# Altium schematic symbol library Transistor.SchLib: 21 symbols
Pins are listed as number, name and electrical type; pins without a type are passive.

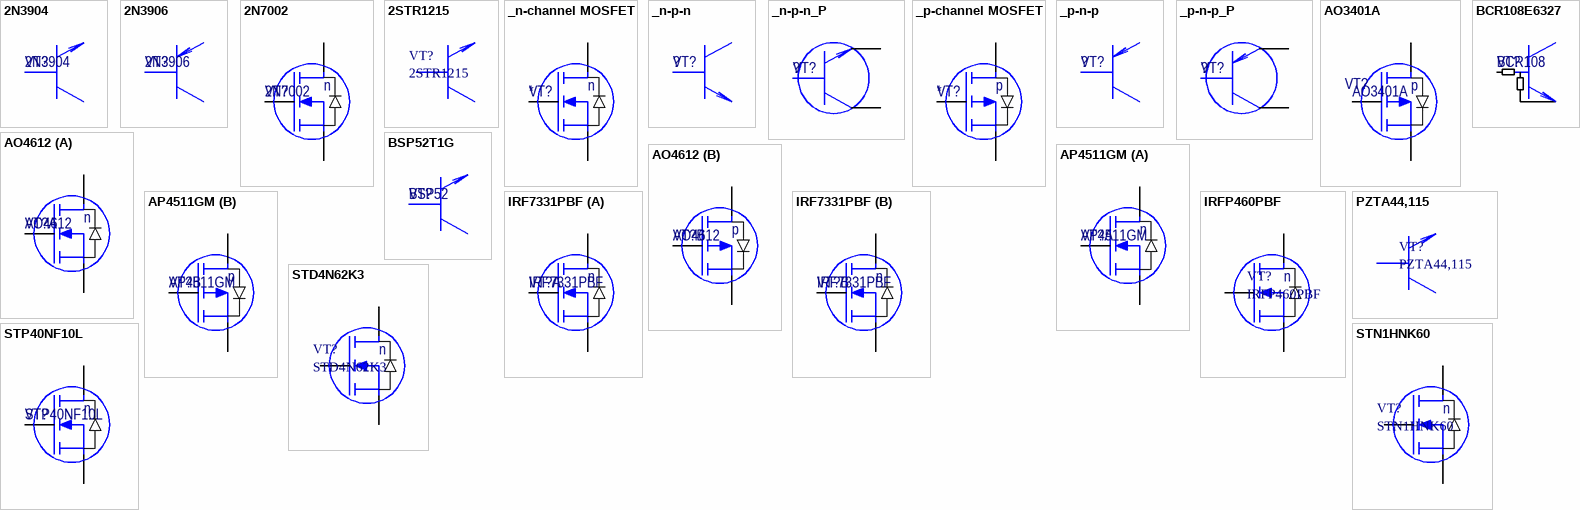
[diagram p0: symbols 2N3904 to STP40NF10L]

## 2N3904
designator VT?
n-p-n биполярный; Manufacturer: Fairchild; ManufacturerPartNumber: 2N3904; Package: TO-92; Supplier: Промэлектроника
footprint TO-92
pins: 1 E "Emitter", 2 B "Вase", 3 C "Сollector"

## 2N3906
designator VT?
p-n-p биполярный; Manufacturer: Fairchild; Price: 2; ManufacturerPartNumber: 2N3906; Package: TO-92; Supplier: Промэлектроника
footprint TO-92
pins: 1 E "Emitter", 2 B "Вase", 3 C "collector"

## 2N7002
designator VT?
N-канал 60В, 300мA; Manufacturer: NXP; ManufacturerPartNumber: 2N7002; ComponentLink1URL: https://www.nxp.com/documents/data_sheet/2N7002.pdf; ComponentLink1Description: Datasheet; Price: 6; Supplier: Промэлектроника
footprint SOT23 (TO-236AB) (SOT23, 3-Leads, Body 2,90x2,45mm, Pitch 0,95mm, IPC Low Density)
pins: 1 G, 2 S, 3 D
text: n

## 2STR1215
designator VT?
TRANS NPN 15V 1.5A SOT-23; Manufacturer: STMicroelectronics; Max Power Dissipation: 500mW; Number of Elements: 1; Emitter Base Voltage (VEBO): 5V; Collector Emitter Saturation Voltage: 850mV; Element Configuration: Single; Supplier 1: Digi-Key; Manufacturer Part Number: 2STR1215; Stock 1: 8419; Pricing 1: 1=0.46, 10=0.35, 100=0.2178, 500=0.149, 1000=0.1146 (USD); Mount: Surface Mount; Case/Package: SOT-23; Number of Pins: 3; Contact Plating: Tin,Matte; Min Operating Temperature: -65°C; Max Operating Temperature: 150°C; Collector Emitter Voltage (VCEO): 15V; Max Collector Current: 1.5A; Packaging: Tape and Reel; Package Quantity: 1; Polarity: NPN; Collector Base Voltage (VCBO): 15V; Collector Emitter Breakdown Voltage: 15V; Max Breakdown Voltage: 15V; Power Dissipation: 500mW; Length: 2.9mm; Height: 0.95mm; Width: 1.3mm; Radiation Hardening: No; REACH SVHC: No SVHC; Lead Free: Lead Free; ComponentLink1URL: https://datasheet.ciiva.com/15139/getdatasheetpartid-145505-15139514.pdf; ComponentLink1Description: https://datasheet.ciiva.com/15139/getdatasheetpartid-145505-15139514.pdf; ComponentLink2URL: https://datasheet.ciiva.com/1195/1689694-1195104.pdf; ComponentLink2Description: https://datasheet.ciiva.com/1195/1689694-1195104.pdf; ComponentLink3URL: https://datasheet.ciiva.com/16614/cd00090812-16614457.pdf; ComponentLink3Description: https://datasheet.ciiva.com/16614/cd00090812-16614457.pdf; ComponentLink4URL: https://datasheet.ciiva.com/976/cd00090812-976666.pdf; ComponentLink4Description: https://datasheet.ciiva.com/976/cd00090812-976666.pdf; ComponentLink5URL: https://datasheet.ciiva.com/976/cd00090812-976667.pdf; ComponentLink5Description: https://datasheet.ciiva.com/976/cd00090812-976667.pdf; ComponentLink6URL: https://datasheet.ciiva.com/16395/cd00090812-16395911.pdf; ComponentLink6Description: https://datasheet.ciiva.com/16395/cd00090812-16395911.pdf; ComponentLink7URL: https://datasheet.ciiva.com/1195/1689694-1195105.pdf; ComponentLink7Description: https://datasheet.ciiva.com/1195/1689694-1195105.pdf; ComponentLink8URL: https://datasheet.ciiva.com/976/cd00090812-976665.pdf; ComponentLink8Description: https://datasheet.ciiva.com/976/cd00090812-976665.pdf; ComponentLink9URL: https://datasheet.ciiva.com/4460/cd00090812-4460552.pdf; ComponentLink9Description: https://datasheet.ciiva.com/4460/cd00090812-4460552.pdf; Supplier Part Number 1: 497-6205-1-ND
footprint SOT95P280X125-3N (SOT23, 3-Leads, Body 3,04x2,80mm, Pitch 0,95mm, IPC Medium Density)
pins: 1 B "Вase", 2 E "Emitter", 3 C "Сollector"

## _n-channel MOSFET
designator VT?
ManufacturerPartNumber: *; Manufacturer: *; ComponentLink1URL: *; ComponentLink1Description: *; Price: *; Note: *; Supplier: *
pins: 1 G, 2 S, 3 D
text: n

## _n-p-n
designator VT?, comment ?
Bipolar transistor n-p-n; Manufacturer: ?; ManufacturerPartNumber: ?
pins: 1 B "Вase", 2 E "Emitter", 3 C "Сollector"
3 alternate drawings of the same symbol

## _n-p-n_P
designator VT?, comment ?
Bipolar transistor n-p-n (Package); Manufacturer: ?; ManufacturerPartNumber: ?
pins: 1 B "Вase", 2 E "Emitter", 3 C "Сollector"
3 alternate drawings of the same symbol

## _p-channel MOSFET
designator VT?
ManufacturerPartNumber: *; Manufacturer: *; ComponentLink1URL: *; ComponentLink1Description: *; Note: *; Price: *; Supplier: *
pins: 1 G, 2 S, 3 D
text: p

## _p-n-p
designator VT?, comment ?
Bipolar transistor p-n-p; Manufacturer: ?; ManufacturerPartNumber: ?
pins: 1 B "Вase", 2 E "Emitter", 3 C "collector"
3 alternate drawings of the same symbol

## _p-n-p_P
designator VT?, comment ?
Bipolar transistor p-n-p (Package); Manufacturer: ?; ManufacturerPartNumber: ?
pins: 1 B "Вase", 2 E "Emitter", 3 C "collector"
3 alternate drawings of the same symbol

## AO3401A
designator VT?
P-канал 30V 4A SOT23; Manufacturer: Fairchild; FET Type: P-Channel; Current - Continuous Drain (Id) @ 25°C: 4A (Ta); Drive Voltage (Max Rds On,  Min Rds On): 2.5V, 10V; Vgs(th) (Max) @ Id: 1.3V @ 250µA; Gate Charge (Qg) (Max) @ Vgs: 12.2nC @ 4.5V; Input Capacitance (Ciss) (Max) @ Vds: 1200pF @ 15V; Vgs (Max): ±12V; Power Dissipation (Max): 1.4W (Ta); Rds On (Max) @ Id, Vgs: 44 mOhm @ 4.3A, 10V; ComponentLink1URL: http://aosmd.com/res/data_sheets/AO3401A.pdf; ComponentLink1Description: http://aosmd.com/res/data_sheets/AO3401A.pdf; ManufacturerPartNumber: AO3401A; Price: 5; Note: *; Supplier: Промэлектроника; Supplier 1: Digi-Key; RoHS: RoHS Compliant; Category: Discrete Semiconductor Products; Stock 1: 168000; Pricing 1: 3000=0.08505, 6000=0.08033, 15000=0.07324, 30000=0.06851, 75000=0.06143 (USD); Packaging: Tape & Reel (TR); Part Status: Active; Technology: MOSFET (Metal Oxide); Drain to Source Voltage (Vdss): 30V; FET Feature: -; Operating Temperature: -55°C ~ 150°C (TJ); Mounting Type: Surface Mount; Supplier Device Package: SOT-23-3L; Package / Case: TO-236-3, SC-59, SOT-23-3; Supplier Part Number 1: 785-1001-2-ND
footprint SOT95P245X110-3M (SOT23, 3-Leads, Body 2,90x2,45mm, Pitch 0,95mm, IPC Low Density)
pins: 1 G, 2 S, 3 D
text: p

## AO4612
designator VT?
p-n пара комплиментарная 60В; Manufacturer: AO (Alpha & Omega semiconductor); ManufacturerPartNumber: AO4612; Note: *; Price: 34; Supplier: Промэлектроника; ComponentLink1URL: http://www.aosmd.com/pdfs/datasheet/AO4612.pdf; ComponentLink1Description: Datasheet
footprint SOIC-8-Narrow (SOIC, 8-Leads, Body 4,90x3,90mm, Pitch 1,27mm, IPC Low Density)
part A pins: 1 S2, 2 G2, 8 D2
part B pins: 3 S1, 4 G1, 5 D1
part A text: n
part B text: p

## AP4511GM
designator VT?
p-n пара комплиментарная 35В; Manufacturer: Advanced Power Electronics Corp.; ManufacturerPartNumber: AP4511GM; Supplier: Промэлектроника; Price: 35; ComponentLink1URL: http://dalincom.ru/datasheet/AP4511GM.pdf; ComponentLink1Description: Datasheet; Note: *
footprint SOIC-8-Narrow (SOIC, 8-Leads, Body 4,90x3,90mm, Pitch 1,27mm, IPC Low Density)
part A pins: 1 Sn, 2 Gn, 7 Dn, 8 Dn2
part B pins: 3 Sp, 4 Gp, 5 Dp, 6 Dp2
part A text: n
part B text: p

## BCR108E6327
designator VT?, comment BCR108
n-p-n цифровой; Manufacturer: Infineon Technologies; ManufacturerPartNumber: BCR108E6327; ComponentLink1Description: Datasheet; ComponentLink1URL: http://www.infineon.com/dgdl/Infineon-BCR108SERIES-DS-v01_01-en.pdf?fileId=db3a30431428a37301143a27e5a401ce; Price: 2,98; Note: BCR108; Package: SOT23; Supplier: Промэлектроника
footprint SOT95P245X110-3M (SOT23, 3-Leads, Body 2,90x2,45mm, Pitch 0,95mm, IPC Low Density)
pins: 1 B "Вase", 2 E "Emitter", 3 C "Сollector"
3 alternate drawings of the same symbol

## BSP52T1G
designator VT?, comment BSP52
n-p-n биполярный; Manufacturer: ON semiconductor; ManufacturerPartNumber: BSP52T1G; ComponentLink1Description: Datasheet; ComponentLink1URL: http://www.onsemi.com/pub_link/Collateral/BSP52T1-D.PDF; Price: 13; Note: BSP52; Package: SOT223; Supplier: Промэлектроника; ComponentLink2Description: Datasheet-local; ComponentLink2URL: *
footprint SOT230P700X180-4L (SOT223, 4-Leads, Body 6,50x7,00mm (avg), Pitch 2,30mm, IPC High Density)
pins: 1 B "Вase", 2 C "Сollector", 3 E "Emitter", 4 C "Emitter"

## IRF7331PBF
designator VT?
N-канал (пара) 20В 7А Vth=1.2В; Manufacturer: Infineon; Note: Транзисторная сборка с низким порогом включения; ManufacturerPartNumber: IRF7331PBF; ComponentLink1URL: https://www.infineon.com/dgdl/irf7331pbf.pdf?fileId=5546d462533600a4015355f61fcc1b57https://www.infineon.com/dgdl/irf7331pbf.pdf?fileId=5546d462533600a4015355f61fcc1b57; ComponentLink1Description: Datasheet; Price: 30; Supplier: Промэлектроника
footprint SOIC-8-Narrow (SOIC, 8-Leads, Body 4,90x3,90mm, Pitch 1,27mm, IPC Low Density)
part A pins: 1 S1, 2 G1, 7 D1, 8 D1
part B pins: 3 S2, 4 G2, 5 D2, 6 D2
part A text: n
part B text: n

## IRFP460PBF
designator VT?
Trans MOSFET N-CH 500V 20A 3-Pin(3+Tab) TO-247AC; Manufacturer: Vishay; Max Power Dissipation: 280W; Drain to Source Resistance: 270mR; Gate to Source Voltage (Vgs): 20V; Input Capacitance: 4.2nF; Rise Time: 59ns; Fall Time: 58ns; Element Configuration: Single; Number of Elements: 1; Turn-Off Delay Time: 110ns; Turn-On Delay Time: 18ns; Nominal Vgs: 4V; Recovery Time: 860ns; Supplier 1: Digikey; ManufacturerPartNumber: IRFP460PBF; Stock 1: 11421; Pricing 1: 1=3.66, 10=3.291, 25=3.1112, 100=2.6963, 250=2.558, 500=2.2953, 1000=1.9358, 2500=1.839 (USD); Mount: Through Hole; Case/Package: TO-247-3; Number of Pins: 3; Weight: 1.340411oz; Min Operating Temperature: -55°C; Max Operating Temperature: 150°C; Continuous Drain Current (ID): 20A; Drain to Source Voltage (Vdss): 500V; Power Dissipation: 280W; Package Quantity: 25; Rds On Max: 270mR; Packaging: Rail/Tube; Voltage Rating (DC): 500V; Current Rating: 20A; Drain to Source Breakdown Voltage: 500V; Number of Channels: 1; Threshold Voltage: 4V; Length: 15.87mm; Height: 20.7mm; Width: 5.31mm; Radiation Hardening: No; Lead Free: Lead Free; REACH SVHC: Unknown; ComponentLink1URL: https://datasheet.ciiva.com/17070/0900766b8079122f-17070730.pdf; ComponentLink1Description: https://datasheet.ciiva.com/17070/0900766b8079122f-17070730.pdf; ComponentLink2URL: https://datasheet.ciiva.com/26932/getdatasheetpartid-107620-26932970.pdf; ComponentLink2Description: https://datasheet.ciiva.com/26932/getdatasheetpartid-107620-26932970.pdf; ComponentLink3URL: https://datasheet.ciiva.com/8025/66411-8025613.pdf; ComponentLink3Description: https://datasheet.ciiva.com/8025/66411-8025613.pdf; ComponentLink4URL: https://datasheet.ciiva.com/14170/hkirfp460-data-e-14170389.pdf; ComponentLink4Description: https://datasheet.ciiva.com/14170/hkirfp460-data-e-14170389.pdf; ComponentLink5URL: https://datasheet.ciiva.com/26791/irfp460pbf-26791259.pdf; ComponentLink5Description: https://datasheet.ciiva.com/26791/irfp460pbf-26791259.pdf; ComponentLink6URL: https://datasheet.ciiva.com/6385/91237-6385774.pdf; ComponentLink6Description: https://datasheet.ciiva.com/6385/91237-6385774.pdf; ComponentLink7URL: https://datasheet.ciiva.com/26128/91237-26128985.pdf; ComponentLink7Description: https://datasheet.ciiva.com/26128/91237-26128985.pdf; ComponentLink8URL: https://datasheet.ciiva.com/8114/91237-8114487.pdf; ComponentLink8Description: https://datasheet.ciiva.com/8114/91237-8114487.pdf; ComponentLink9URL: https://datasheet.ciiva.com/16506/91237-16506555.pdf; ComponentLink9Description: https://datasheet.ciiva.com/16506/91237-16506555.pdf; Supplier Part Number 1: IRFP460PBF-ND
footprint TO-247 (TO-247AC)
pins: 1 G, 2 D, 3 S
text: n

## PZTA44,115
designator VT?
Trans GP BJT NPN 400V 0.3A Automotive 4-Pin(3+Tab) SC-73 T/R; Manufacturer: NXP Semiconductors; Max Power Dissipation: 1.35W; Max Collector Current: 300mA; hFE Min: 40; Transition Frequency: 20MHz; Element Configuration: Single; Number of Elements: 1; Collector Base Voltage (VCBO): 500V; Emitter Base Voltage (VEBO): 6V; Collector Emitter Saturation Voltage: 750mV; Supplier 1: Digi-Key; ManufacturerPartNumber: PZTA44,115; Stock 1: 0; Pricing 1: 1000=0.1867, 2000=0.1702, 5000=0.1593, 10000=0.1483, 25000=0.1464 (USD); Mount: Surface Mount; Case/Package: SOT-223; Number of Pins: 4; Min Operating Temperature: -65°C; Max Operating Temperature: 150°C; Packaging: Tape and Reel; Collector Emitter Voltage (VCEO): 400V; Polarity: NPN; Power Dissipation: 1.35W; Package Quantity: 1000; Collector Emitter Breakdown Voltage: 400V; Frequency: 20MHz; Max Breakdown Voltage: 400V; Gain Bandwidth Product: 20MHz; Max Frequency: 20MHz; Termination: SMD/SMT; Length: 6.7mm; Height: 1.7mm; Width: 3.7mm; Radiation Hardening: No; Lead Free: Lead Free; REACH SVHC: No SVHC; ComponentLink1URL: https://datasheet.ciiva.com/22719/688983-22719498.pdf; ComponentLink1Description: https://datasheet.ciiva.com/22719/688983-22719498.pdf; ComponentLink2URL: https://datasheet.ciiva.com/6360/pzta44-6360258.pdf; ComponentLink2Description: https://datasheet.ciiva.com/6360/pzta44-6360258.pdf; ComponentLink3URL: https://datasheet.ciiva.com/26793/pzta44-115-26793142.pdf; ComponentLink3Description: https://datasheet.ciiva.com/26793/pzta44-115-26793142.pdf; ComponentLink4URL: https://datasheet.ciiva.com/22719/688983-22719499.pdf; ComponentLink4Description: https://datasheet.ciiva.com/22719/688983-22719499.pdf; ComponentLink5URL: https://datasheet.ciiva.com/6360/pzta44-6360311.pdf; ComponentLink5Description: https://datasheet.ciiva.com/6360/pzta44-6360311.pdf; ComponentLink6URL: https://datasheet.ciiva.com/16615/pzta44-16615354.pdf; ComponentLink6Description: https://datasheet.ciiva.com/16615/pzta44-16615354.pdf; Supplier Part Number 1: 1727-5243-2-ND
footprint SOT223 (SOT223, 4-Leads, Body 6,50x7,00mm (avg), Pitch 2,30mm, IPC Low Density)
pins: 1 B "Вase", 2 C "Сollector", 3 E "Emitter"

## STD4N62K3
designator VT?
MOSFET N-CH 620V 3.8A DPAK; Manufacturer: STMicroelectronics; Rise Time: 9ns; Gate to Source Voltage (Vgs): 30V; Turn-On Delay Time: 10ns; Turn-Off Delay Time: 29ns; Fall Time: 19ns; Rds On Max: 1.95R; Input Capacitance: 450pF; Max Power Dissipation: 70W; Number of Elements: 1; Threshold Voltage: 3.75V; Element Configuration: Single; Supplier 1: Digikey; ManufacturerPartNumber: STD4N62K3; Stock 1: 0; Pricing 1: 2500=0.7574 (USD); Mount: Surface Mount; Case/Package: DPAK; Number of Pins: 3; Min Operating Temperature: -55°C; Max Operating Temperature: 150°C; Continuous Drain Current (ID): 3.8A; Package Quantity: 1; Packaging: Tape and Reel; Drain to Source Voltage (Vdss): 620V; Drain to Source Breakdown Voltage: 620V; Drain to Source Resistance: 1.95R; Power Dissipation: 70W; Length: 6.6mm; Height: 2.4mm; Width: 6.2mm; Radiation Hardening: No; REACH SVHC: No SVHC; Lead Free: Lead Free; ComponentLink1URL: https://datasheet.ciiva.com/16490/cd00294255-16490118.pdf; ComponentLink1Description: https://datasheet.ciiva.com/16490/cd00294255-16490118.pdf; ComponentLink2URL: https://datasheet.ciiva.com/25625/0900766b810ea268-25625256.pdf; ComponentLink2Description: https://datasheet.ciiva.com/25625/0900766b810ea268-25625256.pdf; ComponentLink3URL: https://datasheet.ciiva.com/6369/cd00294255-6369469.pdf; ComponentLink3Description: https://datasheet.ciiva.com/6369/cd00294255-6369469.pdf; ComponentLink4URL: https://datasheet.ciiva.com/6369/cd00294255-6369467.pdf; ComponentLink4Description: https://datasheet.ciiva.com/6369/cd00294255-6369467.pdf; ComponentLink5URL: https://datasheet.ciiva.com/939/cd00294255-939060.pdf; ComponentLink5Description: https://datasheet.ciiva.com/939/cd00294255-939060.pdf; Supplier Part Number 1: 497-10648-2-ND
footprint DPAK254P1525X483-3N (D2-PAK, 3-Pads, Body 7,93x8,69mm (max), IPC Medium Density)
pins: 1 G, 3 S, 4 D
text: n

## STN1HNK60
designator VT?
MOSFET N-CH 600V 400MA SOT223; Manufacturer: STMicroelectronics; Rise Time: 5ns; Fall Time: 25ns; Turn-Off Delay Time: 19ns; Turn-On Delay Time: 6.5ns; Gate to Source Voltage (Vgs): 30V; Nominal Vgs: 3V; Rds On Max: 8.5R; Input Capacitance: 156pF; Number of Elements: 1; Max Power Dissipation: 3.3W; Element Configuration: Single; Supplier 1: Digikey; ManufacturerPartNumber: STN1HNK60; Stock 1: 0; Pricing 1: 4000=0.3318 (USD); Mount: Surface Mount; Case/Package: SOT-223; Number of Pins: 3; Min Operating Temperature: -55°C; Max Operating Temperature: 150°C; Continuous Drain Current (ID): 400mA; Packaging: Tape and Reel; Package Quantity: 4000; Drain to Source Voltage (Vdss): 600V; Drain to Source Breakdown Voltage: 600V; Power Dissipation: 3.3W; Drain to Source Resistance: 8.5R; Threshold Voltage: 3V; Voltage Rating (DC): 600V; Current Rating: 400mA; Length: 6.5mm; Height: 1.8mm; Width: 3.5mm; Radiation Hardening: No; REACH SVHC: No SVHC; Lead Free: Lead Free; ComponentLink1URL: https://datasheet.ciiva.com/16491/cd00003309-16491223.pdf; ComponentLink1Description: https://datasheet.ciiva.com/16491/cd00003309-16491223.pdf; ComponentLink2URL: https://datasheet.ciiva.com/5774/453513-5774418.pdf; ComponentLink2Description: https://datasheet.ciiva.com/5774/453513-5774418.pdf; ComponentLink3URL: https://datasheet.ciiva.com/8025/453513-8025259.pdf; ComponentLink3Description: https://datasheet.ciiva.com/8025/453513-8025259.pdf; ComponentLink4URL: https://datasheet.ciiva.com/22712/453513-22712605.pdf; ComponentLink4Description: https://datasheet.ciiva.com/22712/453513-22712605.pdf; ComponentLink5URL: https://datasheet.ciiva.com/937/cd00003309-937288.pdf; ComponentLink5Description: https://datasheet.ciiva.com/937/cd00003309-937288.pdf; ComponentLink6URL: https://datasheet.ciiva.com/937/cd00003309-937287.pdf; ComponentLink6Description: https://datasheet.ciiva.com/937/cd00003309-937287.pdf; ComponentLink7URL: https://datasheet.ciiva.com/937/cd00003309-937286.pdf; ComponentLink7Description: https://datasheet.ciiva.com/937/cd00003309-937286.pdf; Supplier Part Number 1: 497-4668-2-ND
footprint SOT223 (SOT223, 4-Leads, Body 6,50x7,00mm (avg), Pitch 2,30mm, IPC Low Density)
pins: 1 G, 2 D, 3 S
text: n

## STP40NF10L
designator VT?
N-канал 100В, 40А; Manufacturer: STmicroelectronics; ManufacturerPartNumber: STP40NF10L; ComponentLink1URL: http://www.promelec.ru/pdf/STP40NF10L.pdf; ComponentLink1Description: Datasheet; Price: 24; Supplier: Промэлектроника
footprint TO220 (Стоячий TO-220)
pins: 1 G, 2 D, 3 S
text: n